# Altium footprint library LDO-DC_DC.PcbLib: 35 footprints (part 3 of 3)
Each footprint in its own frame and in the unit in brackets; x right, y up, seen from the top. Pads: shape width x height; smd on the part's side, far side on the other; paste and mask are expansions set on the pad; w line width, h text height; cw(c..) or ccw(c..) is an arc to the next point about the centre after c.
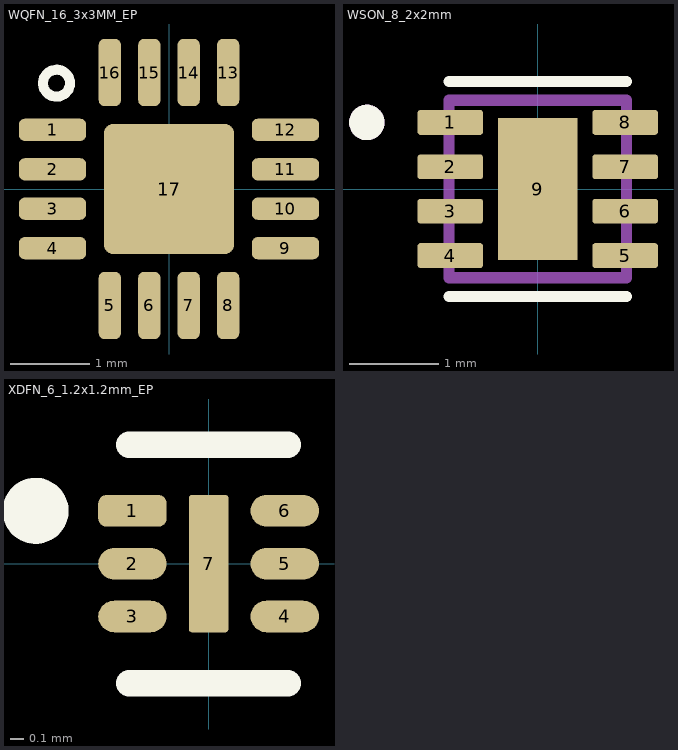
[diagram p2: the footprints below, top view; thin cyan lines are the x and y axes]

## WQFN_16_3x3MM_EP [mm] "20190516 / V-A.Patino"
pads (17):
  rrect50% 0.85x0.28 smd: 1(-1.475,0.75) 2(-1.475,0.25) 3(-1.475,-0.25) 4(-1.475,-0.75) 9(1.475,-0.75) 10(1.475,-0.25) 11(1.475,0.25) 12(1.475,0.75)
  rrect50% 0.28x0.85 smd: 5(-0.75,-1.475) 6(-0.25,-1.475) 7(0.25,-1.475) 8(0.75,-1.475) 13(0.75,1.475) 14(0.25,1.475) 15(-0.25,1.475) 16(-0.75,1.475)
  rrect15% 1.65x1.65 smd: 17(0,0)
Top Overlay:
  circle w0.127: c-1.425,1.34 r0.171
3D body "User Library-S-PWQFN-N16.step": height 0.82, standoff 0.02, extent -1.505,-1.52 1.515,1.5

## WSON_8_2x2mm [mm] "/20210217/J-E.Pachon"
pads (9):
  rrect25% 0.74x0.28 smd: 1(-0.985,0.75) 2(-0.985,0.25) 3(-0.985,-0.25) 4(-0.985,-0.75) 5(0.985,-0.75) 6(0.985,-0.25) 7(0.985,0.25) 8(0.985,0.75)
  rect 0.9x1.6 smd paste-2: 9(0,0)
Top Overlay:
  circle w0.2: c-1.925,0.75 r0.1
  lines w0.127: -1,-1.21 1,-1.21 ; -1,1.21 1,1.21
Top Paste:
  region: 0.28,-0.51 -0.28,-0.51 -0.28,0.51 0.28,0.51
Mechanical 13:
  circle w0.2: c-1.925,0.75 r0.1
  lines w0.127: -1,-1 -1,1 1,1 1,-1 -1,-1
3D body "TPS62172QDSGRQ1.STEP": height 0.81, standoff 0.01, extent -1,-1 1,1

## XDFN_6_1.2x1.2mm_EP [mm] "/20210225/V-A.Patino"
pads (7):
  rrect50% 0.518x0.24 smd: 1(-0.577,0.4)
  rrect100% 0.518x0.24 smd: 2(-0.577,0) 3(-0.577,-0.4) 4(0.577,-0.4) 5(0.577,0) 6(0.577,0.4)
  rrect15% 0.3x1.04 smd: 7(0,0)
Top Overlay:
  circle w0.25: c-1.311,0.4 r0.125
  lines w0.2: -0.6,-0.905 0.6,-0.905 ; -0.6,0.9 0.6,0.9
Top Paste:
  rectangle: -0.071,-0.441 0.071,0.441
3D body "IC_ON_Semiconductor_NCP176AMX330TCG_eec.STEP": height 0.45, standoff 0, extent -0.61,-0.6 0.61,0.6